# Altium schematic symbol library ST3237.Schlib: 1 symbol
Pins are listed as number, name and electrical type; pins without a type are passive.

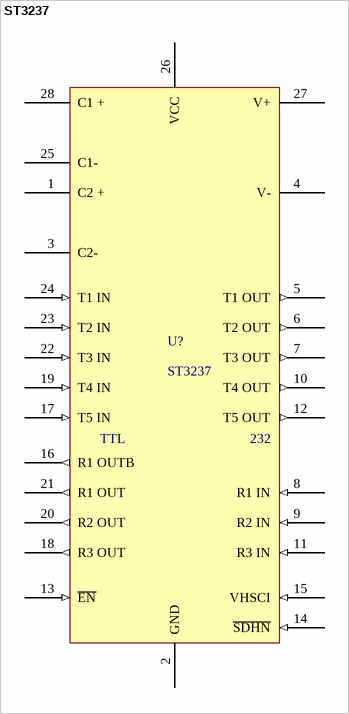
[diagram p0: symbol ST3237]

## ST3237
designator U?
pins: 1 C2 +, 2 GND, 3 C2-, 4 V-, 5 T1 OUT (out), 6 T2 OUT (out), 7 T3 OUT (out), 8 R1 IN (in), 9 R2 IN (in), 10 T4 OUT (out), 11 R3 IN (in), 12 T5 OUT (out), 13 ~{EN} (in), 14 ~{SDHN} (in), 15 VHSCI (in), 16 R1 OUTB (out), 17 T5 IN (in), 18 R3 OUT (out), 19 T4 IN (in), 20 R2 OUT (out), 21 R1 OUT (out), 22 T3 IN (in), 23 T2 IN (in), 24 T1 IN (in), 25 C1-, 26 VCC, 27 V+, 28 C1 +
text: TTL; 232